# EAGLE library part HEADER-ISP (library %mine)
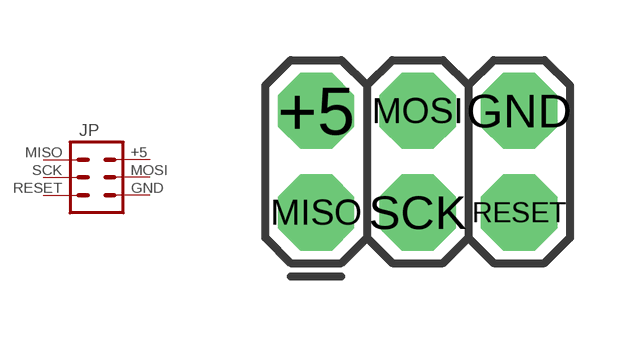
[diagram p2: symbol with the pads of HEADER-ISP; footprint HEADER-ISP]

Designator prefix JP

## HEADER-ISP  [HEADER-ISP]
+5  2  pas
GND  6  pas
MISO  1  pas
MOSI  4  pas
RESET  5  pas
SCK  3  pas

## Footprint HEADER-ISP (pad centres in mm)
drill 1.016 pad 1.905 octagon: +5 0,2.54; GND 5.08,2.54; MISO 0,0; MOSI 2.54,2.54; RESET 5.08,0; SCK 2.54,0